# EAGLE library part 690368182272 (library Board-to-Board (rev18a))
WR-MM Female Angled Connector without Latch and without Polarization, 22 Pins=>Code : Con_BTB_MM_Female_THT_Ang_690368182272 <http://katalog.we-online.de/media/thumbs2/eican/thb_Con_BTB_MM_Female_THT_Ang_69036818xx72_pf2.jpg> Details see: http://katalog.we-online.de/en/em/6903_6818_xx_72 Created 2014-06-04, Karrer Zheng 2014 (C) Würth Elektronik
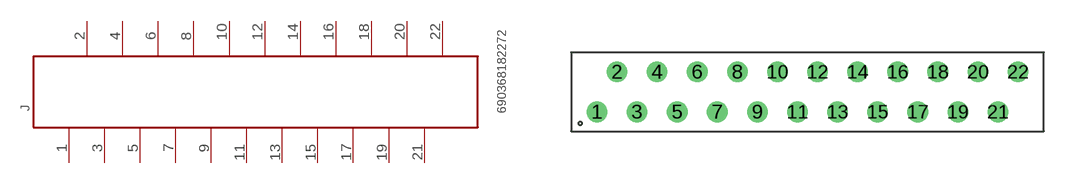
[diagram p390: symbol with the pads of 690368182272; footprint 690368182272]

Designator prefix J

## 690368182272  [690368182272]
1  1  pas
2  2  pas
3  3  pas
4  4  pas
5  5  pas
6  6  pas
7  7  pas
8  8  pas
9  9  pas
10  10  pas
11  11  pas
12  12  pas
13  13  pas
14  14  pas
15  15  pas
16  16  pas
17  17  pas
18  18  pas
19  19  pas
20  20  pas
21  21  pas
22  22  pas

## Footprint 690368182272 (pad centres in mm)
WR-MM Female Angled Connector without Latch and without Polarization, 22 Pins
drill 0.8: 1 -13.335,-1.27; 2 -12.065,1.27; 3 -10.795,-1.27; 4 -9.525,1.27; 5 -8.255,-1.27; 6 -6.985,1.27; 7 -5.715,-1.27; 8 -4.445,1.27; 9 -3.175,-1.27; 10 -1.905,1.27; 11 -0.635,-1.27; 12 0.635,1.27; 13 1.905,-1.27; 14 3.175,1.27; 15 4.445,-1.27; 16 5.715,1.27; 17 6.985,-1.27; 18 8.255,1.27; 19 9.525,-1.27; 20 10.795,1.27; 21 12.065,-1.27; 22 13.335,1.27